# Altium footprint library micro-philips.PCBLIB: 60 footprints (part 1 of 5)
Each footprint in its own frame and in the unit in brackets; x right, y up, seen from the top. Pads: shape width x height; smd on the part's side, far side on the other; paste and mask are expansions set on the pad; w line width, h text height; cw(c..) or ccw(c..) is an arc to the next point about the centre after c.
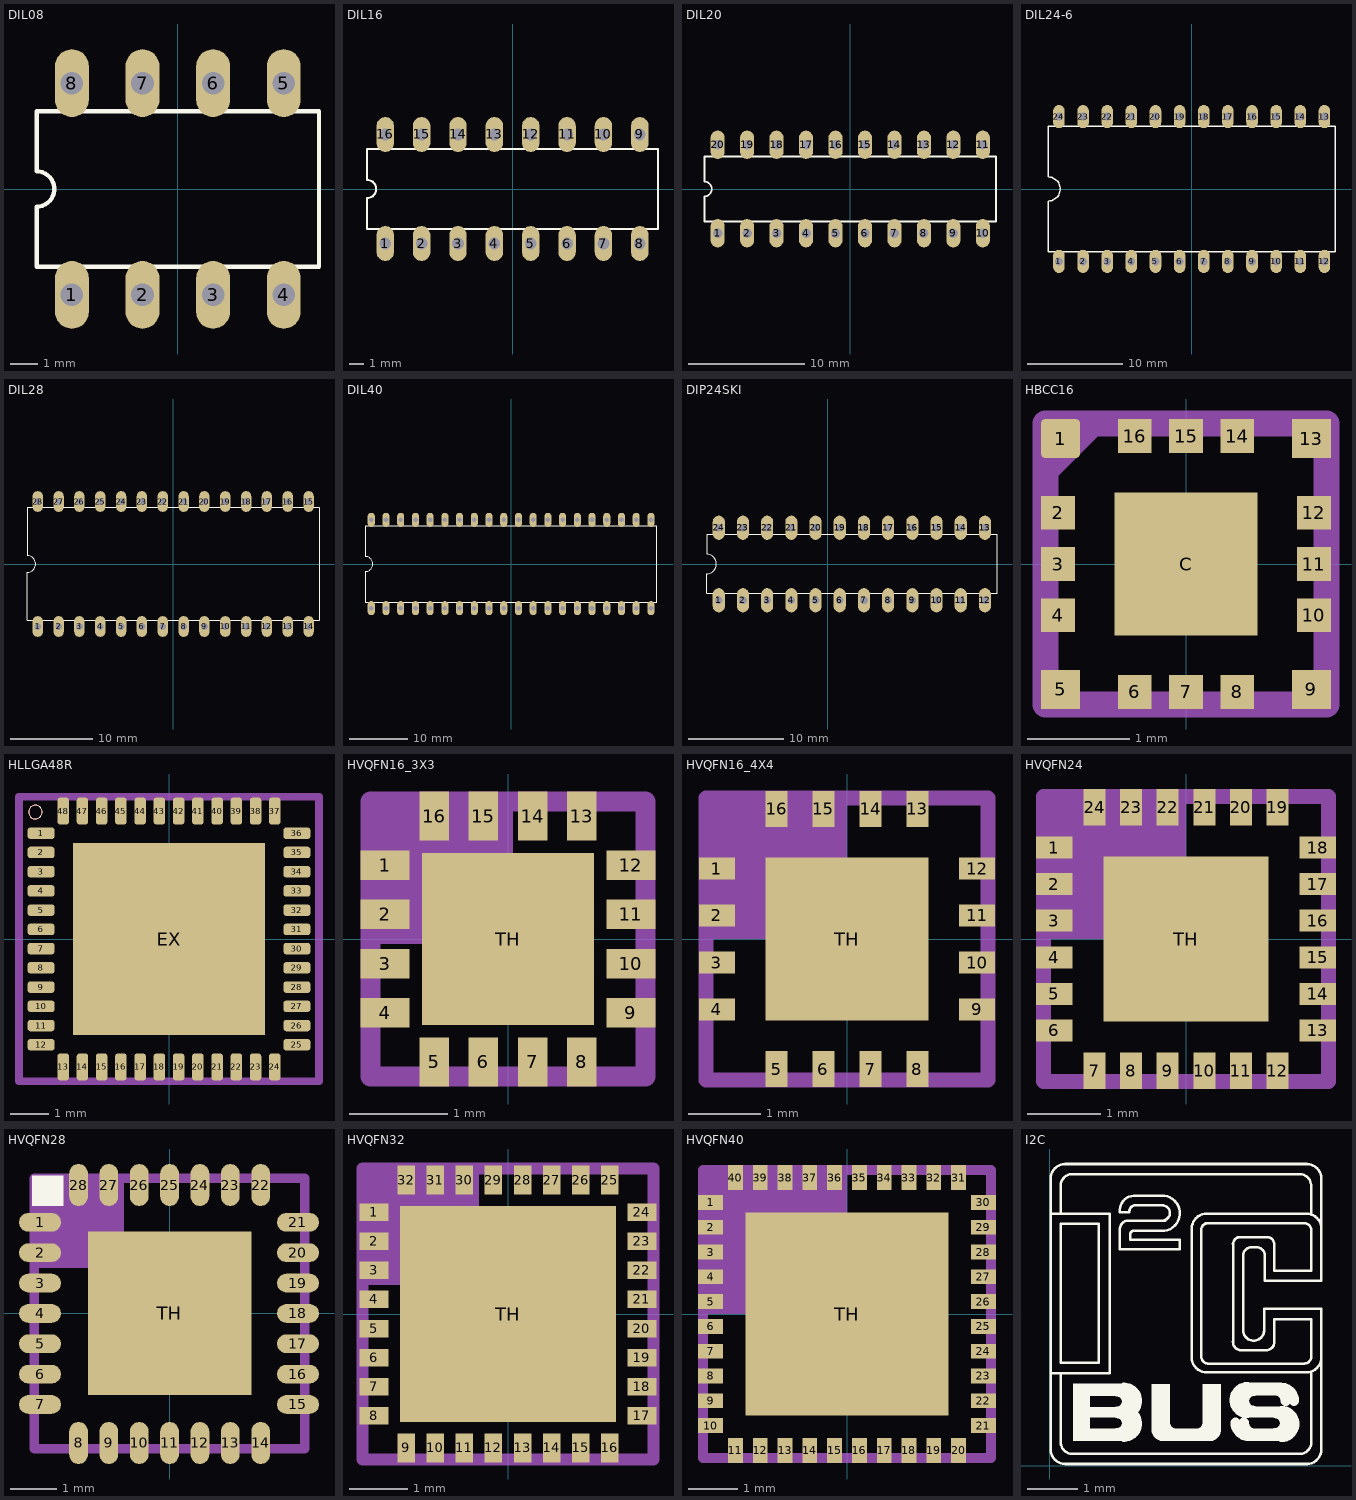
[diagram p0: the footprints below, top view; thin cyan lines are the x and y axes]

## DIL08 [mil]
pads (8):
  oval 48x96 hole 32: 1(-150,-150) 2(-50,-150) 3(50,-150) 4(150,-150) 5(150,150) 6(50,150) 7(-50,150) 8(-150,150)
Top Overlay:
  lines w6: -200,-110 -200,-25 ccw(c-200,0) -200,25 -200,110 200,110 200,-110 -200,-110

## DIL16 [mil]
pads (16):
  oval 48x96 hole 32: 1(-350,-150) 2(-250,-150) 3(-150,-150) 4(-50,-150) 5(50,-150) 6(150,-150) 7(250,-150) 8(350,-150) 9(350,150) 10(250,150) 11(150,150) 12(50,150) 13(-50,150) 14(-150,150) 15(-250,150) 16(-350,150)
Top Overlay:
  lines w6: -400,-110 -400,-25 ccw(c-400,0) -400,25 -400,110 400,110 400,-110 -400,-110

## DIL20 [mil]
pads (20):
  oval 48x96 hole 32: 1(-450,-150) 2(-350,-150) 3(-250,-150) 4(-150,-150) 5(-50,-150) 6(50,-150) 7(150,-150) 8(250,-150) 9(350,-150) 10(450,-150) 11(450,150) 12(350,150) 13(250,150) 14(150,150) 15(50,150) 16(-50,150) 17(-150,150) 18(-250,150) 19(-350,150) 20(-450,150)
Top Overlay:
  lines w6: -495,-110 -495,-25 ccw(c-495,0) -495,25 -495,110 495,110 495,-110 -495,-110

## DIL24-6 [mil]
pads (24):
  oval 48x96 hole 32: 1(-550,-300) 2(-450,-300) 3(-350,-300) 4(-250,-300) 5(-150,-300) 6(-50,-300) 7(50,-300) 8(150,-300) 9(250,-300) 10(350,-300) 11(450,-300) 12(550,-300) 13(550,300) 14(450,300) 15(350,300) 16(250,300) 17(150,300) 18(50,300) 19(-50,300) 20(-150,300) 21(-250,300) 22(-350,300) 23(-450,300) 24(-550,300)
Top Overlay:
  lines w6: -595,-260 -595,-50 ccw(c-595,0) -595,50 -595,260 595,260 595,-260 -595,-260

## DIL28 [mil]
pads (28):
  oval 50x100 hole 32: 1(-650,-300) 2(-550,-300) 3(-450,-300) 4(-350,-300) 5(-250,-300) 6(-150,-300) 7(-50,-300) 8(50,-300) 9(150,-300) 10(250,-300) 11(350,-300) 12(450,-300) 13(550,-300) 14(650,-300) 15(650,300) 16(550,300) 17(450,300) 18(350,300) 19(250,300) 20(150,300) 21(50,300) 22(-50,300) 23(-150,300) 24(-250,300) 25(-350,300) 26(-450,300) 27(-550,300) 28(-650,300)
Top Overlay:
  lines w5: -700,-270 700,-270 700,270 -700,270 -700,40 cw(c-700,0) -700,-40 -700,-270

## DIL40 [mil]
pads (40):
  oval 48x96 hole 32: 1(-950,-300) 2(-850,-300) 3(-750,-300) 4(-650,-300) 5(-550,-300) 6(-450,-300) 7(-350,-300) 8(-250,-300) 9(-150,-300) 10(-50,-300) 11(50,-300) 12(150,-300) 13(250,-300) 14(350,-300) 15(450,-300) 16(550,-300) 17(650,-300) 18(750,-300) 19(850,-300) 20(950,-300) 21(950,300) 22(850,300) 23(750,300) 24(650,300) 25(550,300) 26(450,300) 27(350,300) 28(250,300) 29(150,300) 30(50,300) 31(-50,300) 32(-150,300) 33(-250,300) 34(-350,300) 35(-450,300) 36(-550,300) 37(-650,300) 38(-750,300) 39(-850,300) 40(-950,300)
Top Overlay:
  lines w6: -990,-260 -990,-50 ccw(c-990,0) -990,50 -990,260 990,260 990,-260 -990,-260

## DIP24SKI [mil]
pads (24):
  oval 50x100 hole 32: 1(-450,-150) 2(-350,-150) 3(-250,-150) 4(-150,-150) 5(-50,-150) 6(50,-150) 7(150,-150) 8(250,-150) 9(350,-150) 10(450,-150) 11(550,-150) 12(650,-150) 13(650,150) 14(550,150) 15(450,150) 16(350,150) 17(250,150) 18(150,150) 19(50,150) 20(-50,150) 21(-150,150) 22(-250,150) 23(-350,150) 24(-450,150)
Top Overlay:
  lines w5: -500,-120 700,-120 700,120 -500,120 -500,40 cw(c-500,0) -500,-40 -500,-120

## HBCC16 [mm]
pads (17):
  rrect20% 0.38x0.38 smd: 1(-1.225,1.225)
  rect 0.33x0.33 smd: 2(-1.25,0.5) 3(-1.25,0) 4(-1.25,-0.5) 6(-0.5,-1.25) 7(0,-1.25) 8(0.5,-1.25) 10(1.25,-0.5) 11(1.25,0) 12(1.25,0.5) 14(0.5,1.25) 15(0,1.25) 16(-0.5,1.25)
  rect 0.38x0.38 smd: 5(-1.225,-1.225) 9(1.225,-1.225) 13(1.225,1.225)
  rect 1.4x1.4 smd: C(0,0)
Top Paste:
  rectangle: -1.365,-1.365 -1.085,-1.085
  rectangle: -1.365,0.385 -1.135,0.615
  region: 1.365,-1.365 1.365,-1.085 1.085,-1.085 1.085,-1.365
  region: 1.365,1.365 1.085,1.365 1.085,1.085 1.365,1.085
  region: -1.365,1.365 -1.365,1.085 -1.085,1.085 -1.085,1.365
  rectangle: -1.365,-0.115 -1.135,0.115
  rectangle: -1.365,-0.615 -1.135,-0.385
  region: 0.385,1.365 0.385,1.135 0.615,1.135 0.615,1.365
  region: -0.115,1.365 -0.115,1.135 0.115,1.135 0.115,1.365
  region: -0.615,1.365 -0.615,1.135 -0.385,1.135 -0.385,1.365
  region: 1.365,-0.385 1.135,-0.385 1.135,-0.615 1.365,-0.615
  region: 1.365,0.115 1.135,0.115 1.135,-0.115 1.365,-0.115
  region: 1.365,0.615 1.135,0.615 1.135,0.385 1.365,0.385
  region: -0.385,-1.365 -0.385,-1.135 -0.615,-1.135 -0.615,-1.365
  region: 0.115,-1.365 0.115,-1.135 -0.115,-1.135 -0.115,-1.365
  region: 0.615,-1.365 0.615,-1.135 0.385,-1.135 0.385,-1.365
  region: 0,0 0.254,0 0.254,0.254 0,0.254
  region: 0,0 0.254,0 0.254,0.254 0,0.254
  region: 0,0 0.254,0 0.254,0.254 0,0.254
  region: 0,0 0.254,0 0.254,0.254 0,0.254
  region: 0,0 0.254,0 0.254,0.254 0,0.254
  region: 0,0 0.254,0 0.254,0.254 0,0.254
  region: 0,0 0.254,0 0.254,0.254 0,0.254
  region: 0,0 0.254,0 0.254,0.254 0,0.254
Top Solder:
  rectangle: -0.875,-0.875 0.875,0.875
  rectangle: -1.465,-1.465 -0.985,-0.985
  rectangle: -1.465,0.285 -1.035,0.715
  region: 1.465,-1.465 1.465,-0.985 0.985,-0.985 0.985,-1.465
  region: 1.465,1.465 0.985,1.465 0.985,0.985 1.465,0.985
  region: -1.465,1.465 -1.465,0.985 -0.985,0.985 -0.985,1.465
  rectangle: -1.465,-0.215 -1.035,0.215
  rectangle: -1.465,-0.715 -1.035,-0.285
  region: 0.285,1.465 0.285,1.035 0.715,1.035 0.715,1.465
  region: -0.215,1.465 -0.215,1.035 0.215,1.035 0.215,1.465
  region: -0.715,1.465 -0.715,1.035 -0.285,1.035 -0.285,1.465
  region: 1.465,-0.285 1.035,-0.285 1.035,-0.715 1.465,-0.715
  region: 1.465,0.215 1.035,0.215 1.035,-0.215 1.465,-0.215
  region: 1.465,0.715 1.035,0.715 1.035,0.285 1.465,0.285
  region: -0.285,-1.465 -0.285,-1.035 -0.715,-1.035 -0.715,-1.465
  region: 0.215,-1.465 0.215,-1.035 -0.215,-1.035 -0.215,-1.465
  region: 0.715,-1.465 0.715,-1.035 0.285,-1.035 0.285,-1.465
Mechanical 16:
  lines w0.254: -1.372,0.914 -1.372,-1.372 1.372,-1.372 1.372,1.372 -0.914,1.372 ; -1.372,0.914 -1.372,1.372 -0.914,1.372 ; -1.372,0.914 -0.914,1.372

## HLLGA48R [mm]
pads (49):
  rrect50% 0.7x0.3 smd: 1(-3.325,2.75) 2(-3.325,2.25) 3(-3.325,1.75) 4(-3.325,1.25) 5(-3.325,0.75) 6(-3.325,0.25) 7(-3.325,-0.25) 8(-3.325,-0.75) 9(-3.325,-1.25) 10(-3.325,-1.75) 11(-3.325,-2.25) 12(-3.325,-2.75) 25(3.325,-2.75) 26(3.325,-2.25) 27(3.325,-1.75) 28(3.325,-1.25) 29(3.325,-0.75) 30(3.325,-0.25) 31(3.325,0.25) 32(3.325,0.75) 33(3.325,1.25) 34(3.325,1.75) 35(3.325,2.25) 36(3.325,2.75)
  rrect50% 0.3x0.7 smd: 13(-2.75,-3.325) 14(-2.25,-3.325) 15(-1.75,-3.325) 16(-1.25,-3.325) 17(-0.75,-3.325) 18(-0.25,-3.325) 19(0.25,-3.325) 20(0.75,-3.325) 21(1.25,-3.325) 22(1.75,-3.325) 23(2.25,-3.325) 24(2.75,-3.325) 37(2.75,3.325) 38(2.25,3.325) 39(1.75,3.325) 40(1.25,3.325) 41(0.75,3.325) 42(0.25,3.325) 43(-0.25,3.325) 44(-0.75,3.325) 45(-1.25,3.325) 46(-1.75,3.325) 47(-2.25,3.325) 48(-2.75,3.325)
  rect 5x5 smd: EX(0,0)
Top Layer:
  circle w0: c-3.475,3.3 r0.177
Top Overlay:
  circle w0: c-3.475,3.3 r0.177
Top Paste:
  rectangle: -3.6,2.625 -3.025,2.875
  rectangle: -3.6,2.125 -3.025,2.375
  rectangle: -3.6,1.625 -3.025,1.875
  rectangle: -3.6,1.125 -3.025,1.375
  rectangle: -3.6,0.625 -3.025,0.875
  rectangle: -3.6,0.125 -3.025,0.375
  rectangle: -3.6,-0.375 -3.025,-0.125
  rectangle: -3.6,-0.875 -3.025,-0.625
  rectangle: -3.6,-1.375 -3.025,-1.125
  rectangle: -3.6,-1.875 -3.025,-1.625
  rectangle: -3.6,-2.375 -3.025,-2.125
  rectangle: -3.6,-2.875 -3.025,-2.625
  region: -2.625,-3.6 -2.625,-3.025 -2.875,-3.025 -2.875,-3.6
  region: -2.125,-3.6 -2.125,-3.025 -2.375,-3.025 -2.375,-3.6
  region: -1.625,-3.6 -1.625,-3.025 -1.875,-3.025 -1.875,-3.6
  region: -1.125,-3.6 -1.125,-3.025 -1.375,-3.025 -1.375,-3.6
  region: -0.625,-3.6 -0.625,-3.025 -0.875,-3.025 -0.875,-3.6
  region: -0.125,-3.6 -0.125,-3.025 -0.375,-3.025 -0.375,-3.6
  region: 0.375,-3.6 0.375,-3.025 0.125,-3.025 0.125,-3.6
  region: 0.875,-3.6 0.875,-3.025 0.625,-3.025 0.625,-3.6
  region: 1.375,-3.6 1.375,-3.025 1.125,-3.025 1.125,-3.6
  region: 1.875,-3.6 1.875,-3.025 1.625,-3.025 1.625,-3.6
  region: 2.375,-3.6 2.375,-3.025 2.125,-3.025 2.125,-3.6
  region: 2.875,-3.6 2.875,-3.025 2.625,-3.025 2.625,-3.6
  region: 3.6,-2.625 3.025,-2.625 3.025,-2.875 3.6,-2.875
  region: 3.6,-2.125 3.025,-2.125 3.025,-2.375 3.6,-2.375
  region: 3.6,-1.625 3.025,-1.625 3.025,-1.875 3.6,-1.875
  region: 3.6,-1.125 3.025,-1.125 3.025,-1.375 3.6,-1.375
  region: 3.6,-0.625 3.025,-0.625 3.025,-0.875 3.6,-0.875
  region: 3.6,-0.125 3.025,-0.125 3.025,-0.375 3.6,-0.375
  region: 3.6,0.375 3.025,0.375 3.025,0.125 3.6,0.125
  region: 3.6,0.875 3.025,0.875 3.025,0.625 3.6,0.625
  region: 3.6,1.375 3.025,1.375 3.025,1.125 3.6,1.125
  region: 3.6,1.875 3.025,1.875 3.025,1.625 3.6,1.625
  region: 3.6,2.375 3.025,2.375 3.025,2.125 3.6,2.125
  region: 3.6,2.875 3.025,2.875 3.025,2.625 3.6,2.625
  region: 2.625,3.6 2.625,3.025 2.875,3.025 2.875,3.6
  region: 2.125,3.6 2.125,3.025 2.375,3.025 2.375,3.6
  region: 1.625,3.6 1.625,3.025 1.875,3.025 1.875,3.6
  region: 1.125,3.6 1.125,3.025 1.375,3.025 1.375,3.6
  region: 0.625,3.6 0.625,3.025 0.875,3.025 0.875,3.6
  region: 0.125,3.6 0.125,3.025 0.375,3.025 0.375,3.6
  region: -0.375,3.6 -0.375,3.025 -0.125,3.025 -0.125,3.6
  region: -0.875,3.6 -0.875,3.025 -0.625,3.025 -0.625,3.6
  region: -1.375,3.6 -1.375,3.025 -1.125,3.025 -1.125,3.6
  region: -1.875,3.6 -1.875,3.025 -1.625,3.025 -1.625,3.6
  region: -2.375,3.6 -2.375,3.025 -2.125,3.025 -2.125,3.6
  region: -2.875,3.6 -2.875,3.025 -2.625,3.025 -2.625,3.6
Top Solder:
  rectangle: -3.7,2.575 -2.95,2.925
  rectangle: -3.7,2.075 -2.95,2.425
  rectangle: -3.7,1.575 -2.95,1.925
  rectangle: -3.7,1.075 -2.95,1.425
  rectangle: -3.7,0.575 -2.95,0.925
  rectangle: -3.7,0.075 -2.95,0.425
  rectangle: -3.7,-0.425 -2.95,-0.075
  rectangle: -3.7,-0.925 -2.95,-0.575
  rectangle: -3.7,-1.425 -2.95,-1.075
  rectangle: -3.7,-1.925 -2.95,-1.575
  rectangle: -3.7,-2.425 -2.95,-2.075
  rectangle: -3.7,-2.925 -2.95,-2.575
  region: -2.575,-3.7 -2.575,-2.95 -2.925,-2.95 -2.925,-3.7
  region: -2.075,-3.7 -2.075,-2.95 -2.425,-2.95 -2.425,-3.7
  region: -1.575,-3.7 -1.575,-2.95 -1.925,-2.95 -1.925,-3.7
  region: -1.075,-3.7 -1.075,-2.95 -1.425,-2.95 -1.425,-3.7
  region: -0.575,-3.7 -0.575,-2.95 -0.925,-2.95 -0.925,-3.7
  region: -0.075,-3.7 -0.075,-2.95 -0.425,-2.95 -0.425,-3.7
  region: 0.425,-3.7 0.425,-2.95 0.075,-2.95 0.075,-3.7
  region: 0.925,-3.7 0.925,-2.95 0.575,-2.95 0.575,-3.7
  region: 1.425,-3.7 1.425,-2.95 1.075,-2.95 1.075,-3.7
  region: 1.925,-3.7 1.925,-2.95 1.575,-2.95 1.575,-3.7
  region: 2.425,-3.7 2.425,-2.95 2.075,-2.95 2.075,-3.7
  region: 2.925,-3.7 2.925,-2.95 2.575,-2.95 2.575,-3.7
  region: 3.7,-2.575 2.95,-2.575 2.95,-2.925 3.7,-2.925
  region: 3.7,-2.075 2.95,-2.075 2.95,-2.425 3.7,-2.425
  region: 3.7,-1.575 2.95,-1.575 2.95,-1.925 3.7,-1.925
  region: 3.7,-1.075 2.95,-1.075 2.95,-1.425 3.7,-1.425
  region: 3.7,-0.575 2.95,-0.575 2.95,-0.925 3.7,-0.925
  region: 3.7,-0.075 2.95,-0.075 2.95,-0.425 3.7,-0.425
  region: 3.7,0.425 2.95,0.425 2.95,0.075 3.7,0.075
  region: 3.7,0.925 2.95,0.925 2.95,0.575 3.7,0.575
  region: 3.7,1.425 2.95,1.425 2.95,1.075 3.7,1.075
  region: 3.7,1.925 2.95,1.925 2.95,1.575 3.7,1.575
  region: 3.7,2.425 2.95,2.425 2.95,2.075 3.7,2.075
  region: 3.7,2.925 2.95,2.925 2.95,2.575 3.7,2.575
  region: 2.575,3.7 2.575,2.95 2.925,2.95 2.925,3.7
  region: 2.075,3.7 2.075,2.95 2.425,2.95 2.425,3.7
  region: 1.575,3.7 1.575,2.95 1.925,2.95 1.925,3.7
  region: 1.075,3.7 1.075,2.95 1.425,2.95 1.425,3.7
  region: 0.575,3.7 0.575,2.95 0.925,2.95 0.925,3.7
  region: 0.075,3.7 0.075,2.95 0.425,2.95 0.425,3.7
  region: -0.425,3.7 -0.425,2.95 -0.075,2.95 -0.075,3.7
  region: -0.925,3.7 -0.925,2.95 -0.575,2.95 -0.575,3.7
  region: -1.425,3.7 -1.425,2.95 -1.075,2.95 -1.075,3.7
  region: -1.925,3.7 -1.925,2.95 -1.575,2.95 -1.575,3.7
  region: -2.425,3.7 -2.425,2.95 -2.075,2.95 -2.075,3.7
  region: -2.925,3.7 -2.925,2.95 -2.575,2.95 -2.575,3.7
Mechanical 16:
  lines w0.203: -3.9,-3.7 3.9,-3.7 3.9,3.7 -3.9,3.7 -3.9,-3.7

## HVQFN16_3X3 [mm]
pads (17):
  rect 0.5x0.3 smd: 1(-1.25,0.75) 2(-1.25,0.25) 3(-1.25,-0.25) 4(-1.25,-0.75) 9(1.25,-0.75) 10(1.25,-0.25) 11(1.25,0.25) 12(1.25,0.75)
  rect 0.3x0.5 smd: 5(-0.75,-1.25) 6(-0.25,-1.25) 7(0.25,-1.25) 8(0.75,-1.25) 13(0.75,1.25) 14(0.25,1.25) 15(-0.25,1.25) 16(-0.75,1.25)
  rect 1.75x1.75 smd: TH(0,0)
Top Paste:
  circle w0: c-1.15,0.75 r0.125
  circle w0: c-1.15,0.25 r0.125
  circle w0: c-1.15,-0.25 r0.125
  circle w0: c-1.15,-0.75 r0.125
  circle w0: c-0.75,-1.15 r0.125
  circle w0: c-0.25,-1.15 r0.125
  circle w0: c0.25,-1.15 r0.125
  circle w0: c0.75,-1.15 r0.125
  circle w0: c1.15,-0.75 r0.125
  circle w0: c1.15,-0.25 r0.125
  circle w0: c1.15,0.25 r0.125
  circle w0: c1.15,0.75 r0.125
  circle w0: c0.75,1.15 r0.125
  circle w0: c0.25,1.15 r0.125
  circle w0: c-0.25,1.15 r0.125
  circle w0: c-0.75,1.15 r0.125
  rectangle: -1.475,0.625 -1.15,0.875
  rectangle: -1.475,0.125 -1.15,0.375
  rectangle: -1.475,-0.375 -1.15,-0.125
  rectangle: -1.475,-0.875 -1.15,-0.625
  region: -0.625,-1.475 -0.625,-1.15 -0.875,-1.15 -0.875,-1.475
  region: -0.125,-1.475 -0.125,-1.15 -0.375,-1.15 -0.375,-1.475
  region: 0.375,-1.475 0.375,-1.15 0.125,-1.15 0.125,-1.475
  region: 0.875,-1.475 0.875,-1.15 0.625,-1.15 0.625,-1.475
  region: 1.475,-0.625 1.15,-0.625 1.15,-0.875 1.475,-0.875
  region: 1.475,-0.125 1.15,-0.125 1.15,-0.375 1.475,-0.375
  region: 1.475,0.375 1.15,0.375 1.15,0.125 1.475,0.125
  region: 1.475,0.875 1.15,0.875 1.15,0.625 1.475,0.625
  region: 0.625,1.475 0.625,1.15 0.875,1.15 0.875,1.475
  region: 0.125,1.475 0.125,1.15 0.375,1.15 0.375,1.475
  region: -0.375,1.475 -0.375,1.15 -0.125,1.15 -0.125,1.475
  region: -0.875,1.475 -0.875,1.15 -0.625,1.15 -0.625,1.475
  rectangle: -0.825,-0.825 0.825,0.825
Top Solder:
  circle w0: c-1.15,0.75 r0.175
  circle w0: c-1.15,0.25 r0.175
  circle w0: c-1.15,-0.25 r0.175
  circle w0: c-1.15,-0.75 r0.175
  circle w0: c-0.75,-1.15 r0.175
  circle w0: c-0.25,-1.15 r0.175
  circle w0: c0.25,-1.15 r0.175
  circle w0: c0.75,-1.15 r0.175
  circle w0: c1.15,-0.75 r0.175
  circle w0: c1.15,-0.25 r0.175
  circle w0: c1.15,0.25 r0.175
  circle w0: c1.15,0.75 r0.175
  circle w0: c0.75,1.15 r0.175
  circle w0: c0.25,1.15 r0.175
  circle w0: c-0.25,1.15 r0.175
  circle w0: c-0.75,1.15 r0.175
  rectangle: -1.525,0.575 -1.15,0.925
  rectangle: -1.525,0.075 -1.15,0.425
  rectangle: -1.525,-0.425 -1.15,-0.075
  rectangle: -1.525,-0.925 -1.15,-0.575
  region: -0.575,-1.525 -0.575,-1.15 -0.925,-1.15 -0.925,-1.525
  region: -0.075,-1.525 -0.075,-1.15 -0.425,-1.15 -0.425,-1.525
  region: 0.425,-1.525 0.425,-1.15 0.075,-1.15 0.075,-1.525
  region: 0.925,-1.525 0.925,-1.15 0.575,-1.15 0.575,-1.525
  region: 1.525,-0.575 1.15,-0.575 1.15,-0.925 1.525,-0.925
  region: 1.525,-0.075 1.15,-0.075 1.15,-0.425 1.525,-0.425
  region: 1.525,0.425 1.15,0.425 1.15,0.075 1.525,0.075
  region: 1.525,0.925 1.15,0.925 1.15,0.575 1.525,0.575
  region: 0.575,1.525 0.575,1.15 0.925,1.15 0.925,1.525
  region: 0.075,1.525 0.075,1.15 0.425,1.15 0.425,1.525
  region: -0.425,1.525 -0.425,1.15 -0.075,1.15 -0.075,1.525
  region: -0.925,1.525 -0.925,1.15 -0.575,1.15 -0.575,1.525
  rectangle: -0.9,-0.9 0.9,0.9
Mechanical 16:
  rectangle: -1.35,-0.05 0.05,1.35
  rectangle: -1.5,0.625 -1.15,0.875
  rectangle: -1.5,0.125 -1.15,0.375
  rectangle: -1.5,-0.375 -1.15,-0.125
  rectangle: -1.5,-0.875 -1.15,-0.625
  region: -0.625,-1.5 -0.625,-1.15 -0.875,-1.15 -0.875,-1.5
  region: -0.125,-1.5 -0.125,-1.15 -0.375,-1.15 -0.375,-1.5
  region: 0.375,-1.5 0.375,-1.15 0.125,-1.15 0.125,-1.5
  region: 0.875,-1.5 0.875,-1.15 0.625,-1.15 0.625,-1.5
  region: 1.5,-0.625 1.15,-0.625 1.15,-0.875 1.5,-0.875
  region: 1.5,-0.125 1.15,-0.125 1.15,-0.375 1.5,-0.375
  region: 1.5,0.375 1.15,0.375 1.15,0.125 1.5,0.125
  region: 1.5,0.875 1.15,0.875 1.15,0.625 1.5,0.625
  region: 0.625,1.5 0.625,1.15 0.875,1.15 0.875,1.5
  region: 0.125,1.5 0.125,1.15 0.375,1.15 0.375,1.5
  region: -0.375,1.5 -0.375,1.15 -0.125,1.15 -0.125,1.5
  region: -0.875,1.5 -0.875,1.15 -0.625,1.15 -0.625,1.5
  rectangle: -1.5,0.125 -1.15,0.375
  rectangle: -1.5,-0.375 -1.15,-0.125
  rectangle: -1.5,-0.875 -1.15,-0.625
  region: -0.625,-1.5 -0.625,-1.15 -0.875,-1.15 -0.875,-1.5
  region: -0.125,-1.5 -0.125,-1.15 -0.375,-1.15 -0.375,-1.5
  region: 0.375,-1.5 0.375,-1.15 0.125,-1.15 0.125,-1.5
  region: 0.875,-1.5 0.875,-1.15 0.625,-1.15 0.625,-1.5
  region: 1.5,-0.625 1.15,-0.625 1.15,-0.875 1.5,-0.875
  region: 1.5,-0.125 1.15,-0.125 1.15,-0.375 1.5,-0.375
  region: 1.5,0.375 1.15,0.375 1.15,0.125 1.5,0.125
  region: 1.5,0.875 1.15,0.875 1.15,0.625 1.5,0.625
  region: 0.625,1.5 0.625,1.15 0.875,1.15 0.875,1.5
  region: 0.125,1.5 0.125,1.15 0.375,1.15 0.375,1.5
  region: -0.375,1.5 -0.375,1.15 -0.125,1.15 -0.125,1.5
  region: -0.875,1.5 -0.875,1.15 -0.625,1.15 -0.625,1.5
  lines w0.15: -1.15,0.7 ccw(c-1.15,0.75) -1.15,0.8 ; -1.15,-0.8 ccw(c-1.15,-0.75) -1.15,-0.7 cw(c-1.15,-0.75) -1.15,-0.8 ; -1.15,-0.3 ccw(c-1.15,-0.25) -1.15,-0.2 cw(c-1.15,-0.25) -1.15,-0.3 ; -1.15,0.2 ccw(c-1.15,0.25) -1.15,0.3 cw(c-1.15,0.25) -1.15,0.2 ; -0.8,-1.15 cw(c-0.75,-1.15) -0.7,-1.15 ccw(c-0.75,-1.15) -0.8,-1.15 ; -0.8,1.15 ccw(c-0.75,1.15) -0.7,1.15 cw(c-0.75,1.15) -0.8,1.15 ; -0.3,-1.15 cw(c-0.25,-1.15) -0.2,-1.15 ccw(c-0.25,-1.15) -0.3,-1.15 ; -0.3,1.15 ccw(c-0.25,1.15) -0.2,1.15 cw(c-0.25,1.15) -0.3,1.15 ; 0.2,-1.15 cw(c0.25,-1.15) 0.3,-1.15 ccw(c0.25,-1.15) 0.2,-1.15 ; 0.2,1.15 ccw(c0.25,1.15) 0.3,1.15 cw(c0.25,1.15) 0.2,1.15 ; 0.7,-1.15 cw(c0.75,-1.15) 0.8,-1.15 ccw(c0.75,-1.15) 0.7,-1.15 ; 0.7,1.15 ccw(c0.75,1.15) 0.8,1.15 cw(c0.75,1.15) 0.7,1.15 ; 1.15,-0.8 cw(c1.15,-0.75) 1.15,-0.7 ccw(c1.15,-0.75) 1.15,-0.8 ; 1.15,-0.3 cw(c1.15,-0.25) 1.15,-0.2 ccw(c1.15,-0.25) 1.15,-0.3 ; 1.15,0.2 cw(c1.15,0.25) 1.15,0.3 ccw(c1.15,0.25) 1.15,0.2 ; 1.15,0.7 cw(c1.15,0.75) 1.15,0.8 ccw(c1.15,0.75) 1.15,0.7
  lines w0.203: -1.4,-1.4 1.4,-1.4 1.4,1.4 -1.4,1.4 -1.4,-1.4

## HVQFN16_4X4 [mm]
pads (17):
  rect 0.5x0.3 smd: 1(-1.8,0.975) 2(-1.8,0.325) 3(-1.8,-0.325) 4(-1.8,-0.975) 9(1.8,-0.975) 10(1.8,-0.325) 11(1.8,0.325) 12(1.8,0.975)
  rect 0.3x0.5 smd: 5(-0.975,-1.8) 6(-0.325,-1.8) 7(0.325,-1.8) 8(0.975,-1.8) 13(0.975,1.8) 14(0.325,1.8) 15(-0.325,1.8) 16(-0.975,1.8)
  rect 2.25x2.25 smd: TH(0,0)
Top Paste:
  circle w0: c-1.7,0.975 r0.125
  circle w0: c-1.7,0.325 r0.125
  circle w0: c-1.7,-0.325 r0.125
  circle w0: c-1.7,-0.975 r0.125
  circle w0: c-0.975,-1.7 r0.125
  circle w0: c-0.325,-1.7 r0.125
  circle w0: c0.325,-1.7 r0.125
  circle w0: c0.975,-1.7 r0.125
  circle w0: c1.7,-0.975 r0.125
  circle w0: c1.7,-0.325 r0.125
  circle w0: c1.7,0.325 r0.125
  circle w0: c1.7,0.975 r0.125
  circle w0: c0.975,1.7 r0.125
  circle w0: c0.325,1.7 r0.125
  circle w0: c-0.325,1.7 r0.125
  circle w0: c-0.975,1.7 r0.125
  rectangle: -2.025,0.85 -1.7,1.1
  rectangle: -2.025,0.2 -1.7,0.45
  rectangle: -2.025,-0.45 -1.7,-0.2
  rectangle: -2.025,-1.1 -1.7,-0.85
  region: -0.85,-2.025 -0.85,-1.7 -1.1,-1.7 -1.1,-2.025
  region: -0.2,-2.025 -0.2,-1.7 -0.45,-1.7 -0.45,-2.025
  region: 0.45,-2.025 0.45,-1.7 0.2,-1.7 0.2,-2.025
  region: 1.1,-2.025 1.1,-1.7 0.85,-1.7 0.85,-2.025
  region: 2.025,-0.85 1.7,-0.85 1.7,-1.1 2.025,-1.1
  region: 2.025,-0.2 1.7,-0.2 1.7,-0.45 2.025,-0.45
  region: 2.025,0.45 1.7,0.45 1.7,0.2 2.025,0.2
  region: 2.025,1.1 1.7,1.1 1.7,0.85 2.025,0.85
  region: 0.85,2.025 0.85,1.7 1.1,1.7 1.1,2.025
  region: 0.2,2.025 0.2,1.7 0.45,1.7 0.45,2.025
  region: -0.45,2.025 -0.45,1.7 -0.2,1.7 -0.2,2.025
  region: -1.1,2.025 -1.1,1.7 -0.85,1.7 -0.85,2.025
  rectangle: -1.05,-1.05 1.05,1.05
Top Solder:
  circle w0: c-1.7,0.975 r0.175
  circle w0: c-1.7,0.325 r0.175
  circle w0: c-1.7,-0.325 r0.175
  circle w0: c-1.7,-0.975 r0.175
  circle w0: c-0.975,-1.7 r0.175
  circle w0: c-0.325,-1.7 r0.175
  circle w0: c0.325,-1.7 r0.175
  circle w0: c0.975,-1.7 r0.175
  circle w0: c1.7,-0.975 r0.175
  circle w0: c1.7,-0.325 r0.175
  circle w0: c1.7,0.325 r0.175
  circle w0: c1.7,0.975 r0.175
  circle w0: c0.975,1.7 r0.175
  circle w0: c0.325,1.7 r0.175
  circle w0: c-0.325,1.7 r0.175
  circle w0: c-0.975,1.7 r0.175
  rectangle: -2.075,0.8 -1.7,1.15
  rectangle: -2.075,0.15 -1.7,0.5
  rectangle: -2.075,-0.5 -1.7,-0.15
  rectangle: -2.075,-1.15 -1.7,-0.8
  region: -0.8,-2.075 -0.8,-1.7 -1.15,-1.7 -1.15,-2.075
  region: -0.15,-2.075 -0.15,-1.7 -0.5,-1.7 -0.5,-2.075
  region: 0.5,-2.075 0.5,-1.7 0.15,-1.7 0.15,-2.075
  region: 1.15,-2.075 1.15,-1.7 0.8,-1.7 0.8,-2.075
  region: 2.075,-0.8 1.7,-0.8 1.7,-1.15 2.075,-1.15
  region: 2.075,-0.15 1.7,-0.15 1.7,-0.5 2.075,-0.5
  region: 2.075,0.5 1.7,0.5 1.7,0.15 2.075,0.15
  region: 2.075,1.15 1.7,1.15 1.7,0.8 2.075,0.8
  region: 0.8,2.075 0.8,1.7 1.15,1.7 1.15,2.075
  region: 0.15,2.075 0.15,1.7 0.5,1.7 0.5,2.075
  region: -0.5,2.075 -0.5,1.7 -0.15,1.7 -0.15,2.075
  region: -1.15,2.075 -1.15,1.7 -0.8,1.7 -0.8,2.075
  rectangle: -1.2,-1.2 1.2,1.2
Mechanical 16:
  rectangle: -1.9,0 0,1.9
  rectangle: -2.05,0.85 -1.7,1.1
  rectangle: -2.05,0.2 -1.7,0.45
  rectangle: -2.05,-0.45 -1.7,-0.2
  rectangle: -2.05,-1.1 -1.7,-0.85
  region: -0.85,-2.05 -0.85,-1.7 -1.1,-1.7 -1.1,-2.05
  region: -0.2,-2.05 -0.2,-1.7 -0.45,-1.7 -0.45,-2.05
  region: 0.45,-2.05 0.45,-1.7 0.2,-1.7 0.2,-2.05
  region: 1.1,-2.05 1.1,-1.7 0.85,-1.7 0.85,-2.05
  region: 2.05,-0.85 1.7,-0.85 1.7,-1.1 2.05,-1.1
  region: 2.05,-0.2 1.7,-0.2 1.7,-0.45 2.05,-0.45
  region: 2.05,0.45 1.7,0.45 1.7,0.2 2.05,0.2
  region: 2.05,1.1 1.7,1.1 1.7,0.85 2.05,0.85
  region: 0.85,2.05 0.85,1.7 1.1,1.7 1.1,2.05
  region: 0.2,2.05 0.2,1.7 0.45,1.7 0.45,2.05
  region: -0.45,2.05 -0.45,1.7 -0.2,1.7 -0.2,2.05
  region: -1.1,2.05 -1.1,1.7 -0.85,1.7 -0.85,2.05
  rectangle: -2.05,0.2 -1.7,0.45
  rectangle: -2.05,-0.45 -1.7,-0.2
  rectangle: -2.05,-1.1 -1.7,-0.85
  region: -0.85,-2.05 -0.85,-1.7 -1.1,-1.7 -1.1,-2.05
  region: -0.2,-2.05 -0.2,-1.7 -0.45,-1.7 -0.45,-2.05
  region: 0.45,-2.05 0.45,-1.7 0.2,-1.7 0.2,-2.05
  region: 1.1,-2.05 1.1,-1.7 0.85,-1.7 0.85,-2.05
  region: 2.05,-0.85 1.7,-0.85 1.7,-1.1 2.05,-1.1
  region: 2.05,-0.2 1.7,-0.2 1.7,-0.45 2.05,-0.45
  region: 2.05,0.45 1.7,0.45 1.7,0.2 2.05,0.2
  region: 2.05,1.1 1.7,1.1 1.7,0.85 2.05,0.85
  region: 0.85,2.05 0.85,1.7 1.1,1.7 1.1,2.05
  region: 0.2,2.05 0.2,1.7 0.45,1.7 0.45,2.05
  region: -0.45,2.05 -0.45,1.7 -0.2,1.7 -0.2,2.05
  region: -1.1,2.05 -1.1,1.7 -0.85,1.7 -0.85,2.05
  lines w0.15: -1.7,0.925 ccw(c-1.7,0.975) -1.7,1.025 ; -1.7,-1.025 ccw(c-1.7,-0.975) -1.7,-0.925 cw(c-1.7,-0.975) -1.7,-1.025 ; -1.7,-0.375 ccw(c-1.7,-0.325) -1.7,-0.275 cw(c-1.7,-0.325) -1.7,-0.375 ; -1.7,0.275 ccw(c-1.7,0.325) -1.7,0.375 cw(c-1.7,0.325) -1.7,0.275 ; -1.025,-1.7 cw(c-0.975,-1.7) -0.925,-1.7 ccw(c-0.975,-1.7) -1.025,-1.7 ; -1.025,1.7 ccw(c-0.975,1.7) -0.925,1.7 cw(c-0.975,1.7) -1.025,1.7 ; -0.375,-1.7 cw(c-0.325,-1.7) -0.275,-1.7 ccw(c-0.325,-1.7) -0.375,-1.7 ; -0.375,1.7 ccw(c-0.325,1.7) -0.275,1.7 cw(c-0.325,1.7) -0.375,1.7 ; 0.275,-1.7 cw(c0.325,-1.7) 0.375,-1.7 ccw(c0.325,-1.7) 0.275,-1.7 ; 0.275,1.7 ccw(c0.325,1.7) 0.375,1.7 cw(c0.325,1.7) 0.275,1.7 ; 0.925,-1.7 cw(c0.975,-1.7) 1.025,-1.7 ccw(c0.975,-1.7) 0.925,-1.7 ; 0.925,1.7 ccw(c0.975,1.7) 1.025,1.7 cw(c0.975,1.7) 0.925,1.7 ; 1.7,-1.025 cw(c1.7,-0.975) 1.7,-0.925 ccw(c1.7,-0.975) 1.7,-1.025 ; 1.7,-0.375 cw(c1.7,-0.325) 1.7,-0.275 ccw(c1.7,-0.325) 1.7,-0.375 ; 1.7,0.275 cw(c1.7,0.325) 1.7,0.375 ccw(c1.7,0.325) 1.7,0.275 ; 1.7,0.925 cw(c1.7,0.975) 1.7,1.025 ccw(c1.7,0.975) 1.7,0.925
  lines w0.203: -1.95,-1.95 1.95,-1.95 1.95,1.95 -1.95,1.95 -1.95,-1.95

## HVQFN24 [mm]
pads (25):
  rect 0.5x0.3 smd: 1(-1.8,1.25) 2(-1.8,0.75) 3(-1.8,0.25) 4(-1.8,-0.25) 5(-1.8,-0.75) 6(-1.8,-1.25) 13(1.8,-1.25) 14(1.8,-0.75) 15(1.8,-0.25) 16(1.8,0.25) 17(1.8,0.75) 18(1.8,1.25)
  rect 0.3x0.5 smd: 7(-1.25,-1.8) 8(-0.75,-1.8) 9(-0.25,-1.8) 10(0.25,-1.8) 11(0.75,-1.8) 12(1.25,-1.8) 19(1.25,1.8) 20(0.75,1.8) 21(0.25,1.8) 22(-0.25,1.8) 23(-0.75,1.8) 24(-1.25,1.8)
  rect 2.25x2.25 smd: TH(0,0)
Mechanical 16:
  region: -1.7,1.125 -1.7,1.375 -2.05,1.375 -2.05,1.125
  region: -1.7,0.625 -1.7,0.875 -2.05,0.875 -2.05,0.625
  region: -1.7,0.125 -1.7,0.375 -2.05,0.375 -2.05,0.125
  region: -1.7,-0.375 -1.7,-0.125 -2.05,-0.125 -2.05,-0.375
  region: -1.7,-0.875 -1.7,-0.625 -2.05,-0.625 -2.05,-0.875
  region: -1.7,-1.375 -1.7,-1.125 -2.05,-1.125 -2.05,-1.375
  rectangle: -1.9,0 0,1.9
  region: -1.125,-1.7 -1.375,-1.7 -1.375,-2.05 -1.125,-2.05
  region: -0.625,-1.7 -0.875,-1.7 -0.875,-2.05 -0.625,-2.05
  region: -0.125,-1.7 -0.375,-1.7 -0.375,-2.05 -0.125,-2.05
  region: 0.375,-1.7 0.125,-1.7 0.125,-2.05 0.375,-2.05
  region: 0.875,-1.7 0.625,-1.7 0.625,-2.05 0.875,-2.05
  region: 1.375,-1.7 1.125,-1.7 1.125,-2.05 1.375,-2.05
  region: 1.7,-1.125 1.7,-1.375 2.05,-1.375 2.05,-1.125
  region: 1.7,-0.625 1.7,-0.875 2.05,-0.875 2.05,-0.625
  region: 1.7,-0.125 1.7,-0.375 2.05,-0.375 2.05,-0.125
  region: 1.7,0.375 1.7,0.125 2.05,0.125 2.05,0.375
  region: 1.7,0.875 1.7,0.625 2.05,0.625 2.05,0.875
  region: 1.7,1.375 1.7,1.125 2.05,1.125 2.05,1.375
  rectangle: 1.125,1.7 1.375,2.05
  rectangle: 0.625,1.7 0.875,2.05
  rectangle: 0.125,1.7 0.375,2.05
  rectangle: -0.375,1.7 -0.125,2.05
  rectangle: -0.875,1.7 -0.625,2.05
  rectangle: -1.375,1.7 -1.125,2.05
  lines w0.15: -1.7,-1.3 ccw(c-1.7,-1.25) -1.7,-1.2 ; -1.7,-0.8 ccw(c-1.7,-0.75) -1.7,-0.7 ; -1.7,-0.3 ccw(c-1.7,-0.25) -1.7,-0.2 ; -1.7,0.2 ccw(c-1.7,0.25) -1.7,0.3 ; -1.7,0.7 ccw(c-1.7,0.75) -1.7,0.8 ; -1.7,1.2 ccw(c-1.7,1.25) -1.7,1.3 ; -1.3,-1.7 cw(c-1.25,-1.7) -1.2,-1.7 ; -1.3,1.7 ccw(c-1.25,1.7) -1.2,1.7 ; -0.8,-1.7 cw(c-0.75,-1.7) -0.7,-1.7 ; -0.8,1.7 ccw(c-0.75,1.7) -0.7,1.7 ; -0.3,-1.7 cw(c-0.25,-1.7) -0.2,-1.7 ; -0.3,1.7 ccw(c-0.25,1.7) -0.2,1.7 ; 0.2,-1.7 cw(c0.25,-1.7) 0.3,-1.7 ; 0.2,1.7 ccw(c0.25,1.7) 0.3,1.7 ; 0.7,-1.7 cw(c0.75,-1.7) 0.8,-1.7 ; 0.7,1.7 ccw(c0.75,1.7) 0.8,1.7 ; 1.2,-1.7 cw(c1.25,-1.7) 1.3,-1.7 ; 1.2,1.7 ccw(c1.25,1.7) 1.3,1.7 ; 1.7,-1.3 cw(c1.7,-1.25) 1.7,-1.2 ; 1.7,-0.8 cw(c1.7,-0.75) 1.7,-0.7 ; 1.7,-0.3 cw(c1.7,-0.25) 1.7,-0.2 ; 1.7,0.2 cw(c1.7,0.25) 1.7,0.3 ; 1.7,0.7 cw(c1.7,0.75) 1.7,0.8 ; 1.7,1.2 cw(c1.7,1.25) 1.7,1.3
  lines w0.203: -1.95,-1.95 1.95,-1.95 1.95,1.95 -1.95,1.95 -1.95,-1.95

## HVQFN28 [mm]
pads (29):
  rrect100% 0.9x0.4 smd: 1(-2.775,1.95) 2(-2.775,1.3) 3(-2.775,0.65) 4(-2.775,0) 5(-2.775,-0.65) 6(-2.775,-1.3) 7(-2.775,-1.95) 15(2.75,-1.95) 16(2.75,-1.3) 17(2.75,-0.65) 18(2.75,0) 19(2.75,0.65) 20(2.75,1.3) 21(2.75,1.95)
  rrect100% 0.4x0.9 smd: 8(-1.95,-2.775) 9(-1.3,-2.775) 10(-0.65,-2.775) 11(0,-2.775) 12(0.65,-2.775) 13(1.3,-2.775) 14(1.95,-2.775) 22(1.95,2.75) 23(1.3,2.75) 24(0.65,2.75) 25(0,2.75) 26(-0.65,2.75) 27(-1.3,2.75) 28(-1.95,2.75)
  rect 3.5x3.5 smd: TH(0,0)
Top Overlay:
  rectangle: -2.95,2.3 -2.275,2.95
Top Paste:
  circle w0: c-2.525,1.95 r0.175
  circle w0: c-2.525,1.3 r0.175
  circle w0: c-2.525,0.65 r0.175
  circle w0: c-2.525,0 r0.175
  circle w0: c-2.525,-0.65 r0.175
  circle w0: c-2.525,-1.3 r0.175
  circle w0: c-2.525,-1.95 r0.175
  circle w0: c-1.95,-2.525 r0.175
  circle w0: c-1.3,-2.525 r0.175
  circle w0: c-0.65,-2.525 r0.175
  circle w0: c0,-2.525 r0.175
  circle w0: c0.65,-2.525 r0.175
  circle w0: c1.3,-2.525 r0.175
  circle w0: c1.95,-2.525 r0.175
  circle w0: c2.525,-1.95 r0.175
  circle w0: c2.525,-1.3 r0.175
  circle w0: c2.525,-0.65 r0.175
  circle w0: c2.525,0 r0.175
  circle w0: c2.525,0.65 r0.175
  circle w0: c2.525,1.3 r0.175
  circle w0: c2.525,1.95 r0.175
  circle w0: c1.95,2.525 r0.175
  circle w0: c1.3,2.525 r0.175
  circle w0: c0.65,2.525 r0.175
  circle w0: c0,2.525 r0.175
  circle w0: c-0.65,2.525 r0.175
  circle w0: c-1.3,2.525 r0.175
  circle w0: c-1.95,2.525 r0.175
  rectangle: -3.1,1.775 -2.525,2.125
  rectangle: -1.675,-1.675 1.675,1.675
  rectangle: -3.1,1.125 -2.525,1.475
  rectangle: -3.1,0.475 -2.525,0.825
  rectangle: -3.1,-0.175 -2.525,0.175
  rectangle: -3.1,-0.825 -2.525,-0.475
  rectangle: -3.1,-1.475 -2.525,-1.125
  rectangle: -3.1,-2.125 -2.525,-1.775
  region: -1.775,-3.1 -1.775,-2.525 -2.125,-2.525 -2.125,-3.1
  region: -1.125,-3.1 -1.125,-2.525 -1.475,-2.525 -1.475,-3.1
  region: -0.475,-3.1 -0.475,-2.525 -0.825,-2.525 -0.825,-3.1
  region: 0.175,-3.1 0.175,-2.525 -0.175,-2.525 -0.175,-3.1
  region: 0.825,-3.1 0.825,-2.525 0.475,-2.525 0.475,-3.1
  region: 1.475,-3.1 1.475,-2.525 1.125,-2.525 1.125,-3.1
  region: 2.125,-3.1 2.125,-2.525 1.775,-2.525 1.775,-3.1
  region: 3.1,-1.775 2.525,-1.775 2.525,-2.125 3.1,-2.125
  region: 3.1,-1.125 2.525,-1.125 2.525,-1.475 3.1,-1.475
  region: 3.1,-0.475 2.525,-0.475 2.525,-0.825 3.1,-0.825
  region: 3.1,0.175 2.525,0.175 2.525,-0.175 3.1,-0.175
  region: 3.1,0.825 2.525,0.825 2.525,0.475 3.1,0.475
  region: 3.1,1.475 2.525,1.475 2.525,1.125 3.1,1.125
  region: 3.1,2.125 2.525,2.125 2.525,1.775 3.1,1.775
  region: 1.775,3.1 1.775,2.525 2.125,2.525 2.125,3.1
  region: 1.125,3.1 1.125,2.525 1.475,2.525 1.475,3.1
  region: 0.475,3.1 0.475,2.525 0.825,2.525 0.825,3.1
  region: -0.175,3.1 -0.175,2.525 0.175,2.525 0.175,3.1
  region: -0.825,3.1 -0.825,2.525 -0.475,2.525 -0.475,3.1
  region: -1.475,3.1 -1.475,2.525 -1.125,2.525 -1.125,3.1
  region: -2.125,3.1 -2.125,2.525 -1.775,2.525 -1.775,3.1
Top Solder:
  circle w0: c-2.525,1.95 r0.225
  circle w0: c-2.525,1.3 r0.225
  circle w0: c-2.525,0.65 r0.225
  circle w0: c-2.525,0 r0.225
  circle w0: c-2.525,-0.65 r0.225
  circle w0: c-2.525,-1.3 r0.225
  circle w0: c-2.525,-1.95 r0.225
  circle w0: c-1.95,-2.525 r0.225
  circle w0: c-1.3,-2.525 r0.225
  circle w0: c-0.65,-2.525 r0.225
  circle w0: c0,-2.525 r0.225
  circle w0: c0.65,-2.525 r0.225
  circle w0: c1.3,-2.525 r0.225
  circle w0: c1.95,-2.525 r0.225
  circle w0: c2.525,-1.95 r0.225
  circle w0: c2.525,-1.3 r0.225
  circle w0: c2.525,-0.65 r0.225
  circle w0: c2.525,0 r0.225
  circle w0: c2.525,0.65 r0.225
  circle w0: c2.525,1.3 r0.225
  circle w0: c2.525,1.95 r0.225
  circle w0: c1.95,2.525 r0.225
  circle w0: c1.3,2.525 r0.225
  circle w0: c0.65,2.525 r0.225
  circle w0: c0,2.525 r0.225
  circle w0: c-0.65,2.525 r0.225
  circle w0: c-1.3,2.525 r0.225
  circle w0: c-1.95,2.525 r0.225
  rectangle: -3.175,1.725 -2.5,2.175
  rectangle: -1.85,-1.85 1.825,1.85
  rectangle: -3.175,1.075 -2.5,1.525
  rectangle: -3.175,0.425 -2.5,0.875
  rectangle: -3.175,-0.225 -2.5,0.225
  rectangle: -3.175,-0.875 -2.5,-0.425
  rectangle: -3.175,-1.525 -2.5,-1.075
  rectangle: -3.175,-2.175 -2.5,-1.725
  region: -1.725,-3.175 -1.725,-2.5 -2.175,-2.5 -2.175,-3.175
  region: -1.075,-3.175 -1.075,-2.5 -1.525,-2.5 -1.525,-3.175
  region: -0.425,-3.175 -0.425,-2.5 -0.875,-2.5 -0.875,-3.175
  region: 0.225,-3.175 0.225,-2.5 -0.225,-2.5 -0.225,-3.175
  region: 0.875,-3.175 0.875,-2.5 0.425,-2.5 0.425,-3.175
  region: 1.525,-3.175 1.525,-2.5 1.075,-2.5 1.075,-3.175
  region: 2.175,-3.175 2.175,-2.5 1.725,-2.5 1.725,-3.175
  region: 3.175,-1.725 2.5,-1.725 2.5,-2.175 3.175,-2.175
  region: 3.175,-1.075 2.5,-1.075 2.5,-1.525 3.175,-1.525
  region: 3.175,-0.425 2.5,-0.425 2.5,-0.875 3.175,-0.875
  region: 3.175,0.225 2.5,0.225 2.5,-0.225 3.175,-0.225
  region: 3.175,0.875 2.5,0.875 2.5,0.425 3.175,0.425
  region: 3.175,1.525 2.5,1.525 2.5,1.075 3.175,1.075
  region: 3.175,2.175 2.5,2.175 2.5,1.725 3.175,1.725
  region: 1.725,3.175 1.725,2.5 2.175,2.5 2.175,3.175
  region: 1.075,3.175 1.075,2.5 1.525,2.5 1.525,3.175
  region: 0.425,3.175 0.425,2.5 0.875,2.5 0.875,3.175
  region: -0.225,3.175 -0.225,2.5 0.225,2.5 0.225,3.175
  region: -0.875,3.175 -0.875,2.5 -0.425,2.5 -0.425,3.175
  region: -1.525,3.175 -1.525,2.5 -1.075,2.5 -1.075,3.175
  region: -2.175,3.175 -2.175,2.5 -1.725,2.5 -1.725,3.175
Mechanical 16:
  rectangle: -2.875,0.975 -0.975,2.875
  lines w0.203: -2.9,-2.9 2.9,-2.9 2.9,2.9 -2.9,2.9 -2.9,-2.9

## HVQFN32 [mm]
pads (33):
  rect 0.5x0.3 smd: 1(-2.3,1.75) 2(-2.3,1.25) 3(-2.3,0.75) 4(-2.3,0.25) 5(-2.3,-0.25) 6(-2.3,-0.75) 7(-2.3,-1.25) 8(-2.3,-1.75) 17(2.3,-1.75) 18(2.3,-1.25) 19(2.3,-0.75) 20(2.3,-0.25) 21(2.3,0.25) 22(2.3,0.75) 23(2.3,1.25) 24(2.3,1.75)
  rect 0.3x0.5 smd: 9(-1.75,-2.3) 10(-1.25,-2.3) 11(-0.75,-2.3) 12(-0.25,-2.3) 13(0.25,-2.3) 14(0.75,-2.3) 15(1.25,-2.3) 16(1.75,-2.3) 25(1.75,2.3) 26(1.25,2.3) 27(0.75,2.3) 28(0.25,2.3) 29(-0.25,2.3) 30(-0.75,2.3) 31(-1.25,2.3) 32(-1.75,2.3)
  rect 3.7x3.7 smd: TH(0,0)
Top Solder:
  rectangle: -2.575,1.575 -2.025,1.925
  rectangle: -2.575,1.075 -2.025,1.425
  rectangle: -2.575,0.575 -2.025,0.925
  rectangle: -2.575,0.075 -2.025,0.425
  rectangle: -2.575,-0.425 -2.025,-0.075
  rectangle: -2.575,-0.925 -2.025,-0.575
  rectangle: -2.575,-1.425 -2.025,-1.075
  rectangle: -2.575,-1.925 -2.025,-1.575
  region: -1.575,-2.575 -1.575,-2.025 -1.925,-2.025 -1.925,-2.575
  region: -1.075,-2.575 -1.075,-2.025 -1.425,-2.025 -1.425,-2.575
  region: -0.575,-2.575 -0.575,-2.025 -0.925,-2.025 -0.925,-2.575
  region: -0.075,-2.575 -0.075,-2.025 -0.425,-2.025 -0.425,-2.575
  region: 0.425,-2.575 0.425,-2.025 0.075,-2.025 0.075,-2.575
  region: 0.925,-2.575 0.925,-2.025 0.575,-2.025 0.575,-2.575
  region: 1.425,-2.575 1.425,-2.025 1.075,-2.025 1.075,-2.575
  region: 1.925,-2.575 1.925,-2.025 1.575,-2.025 1.575,-2.575
  region: 2.575,-1.575 2.025,-1.575 2.025,-1.925 2.575,-1.925
  region: 2.575,-1.075 2.025,-1.075 2.025,-1.425 2.575,-1.425
  region: 2.575,-0.575 2.025,-0.575 2.025,-0.925 2.575,-0.925
  region: 2.575,-0.075 2.025,-0.075 2.025,-0.425 2.575,-0.425
  region: 2.575,0.425 2.025,0.425 2.025,0.075 2.575,0.075
  region: 2.575,0.925 2.025,0.925 2.025,0.575 2.575,0.575
  region: 2.575,1.425 2.025,1.425 2.025,1.075 2.575,1.075
  region: 2.575,1.925 2.025,1.925 2.025,1.575 2.575,1.575
  region: 1.575,2.575 1.575,2.025 1.925,2.025 1.925,2.575
  region: 1.075,2.575 1.075,2.025 1.425,2.025 1.425,2.575
  region: 0.575,2.575 0.575,2.025 0.925,2.025 0.925,2.575
  region: 0.075,2.575 0.075,2.025 0.425,2.025 0.425,2.575
  region: -0.425,2.575 -0.425,2.025 -0.075,2.025 -0.075,2.575
  region: -0.925,2.575 -0.925,2.025 -0.575,2.025 -0.575,2.575
  region: -1.425,2.575 -1.425,2.025 -1.075,2.025 -1.075,2.575
  region: -1.925,2.575 -1.925,2.025 -1.575,2.025 -1.575,2.575
  rectangle: -1.875,-1.875 1.875,1.875
Mechanical 16:
  region: -2.2,1.625 -2.2,1.875 -2.55,1.875 -2.55,1.625
  region: -2.2,1.125 -2.2,1.375 -2.55,1.375 -2.55,1.125
  region: -2.2,0.625 -2.2,0.875 -2.55,0.875 -2.55,0.625
  region: -2.2,0.125 -2.2,0.375 -2.55,0.375 -2.55,0.125
  region: -2.2,-0.375 -2.2,-0.125 -2.55,-0.125 -2.55,-0.375
  region: -2.2,-0.875 -2.2,-0.625 -2.55,-0.625 -2.55,-0.875
  region: -2.2,-1.375 -2.2,-1.125 -2.55,-1.125 -2.55,-1.375
  region: -2.2,-1.875 -2.2,-1.625 -2.55,-1.625 -2.55,-1.875
  region: -1.625,-2.2 -1.875,-2.2 -1.875,-2.55 -1.625,-2.55
  region: -1.125,-2.2 -1.375,-2.2 -1.375,-2.55 -1.125,-2.55
  region: -0.625,-2.2 -0.875,-2.2 -0.875,-2.55 -0.625,-2.55
  region: -0.125,-2.2 -0.375,-2.2 -0.375,-2.55 -0.125,-2.55
  region: 0.375,-2.2 0.125,-2.2 0.125,-2.55 0.375,-2.55
  region: 0.875,-2.2 0.625,-2.2 0.625,-2.55 0.875,-2.55
  region: 1.375,-2.2 1.125,-2.2 1.125,-2.55 1.375,-2.55
  region: 1.875,-2.2 1.625,-2.2 1.625,-2.55 1.875,-2.55
  region: 2.2,-1.625 2.2,-1.875 2.55,-1.875 2.55,-1.625
  region: 2.2,-1.125 2.2,-1.375 2.55,-1.375 2.55,-1.125
  region: 2.2,-0.625 2.2,-0.875 2.55,-0.875 2.55,-0.625
  region: 2.2,-0.125 2.2,-0.375 2.55,-0.375 2.55,-0.125
  region: 2.2,0.375 2.2,0.125 2.55,0.125 2.55,0.375
  region: 2.2,0.875 2.2,0.625 2.55,0.625 2.55,0.875
  region: 2.2,1.375 2.2,1.125 2.55,1.125 2.55,1.375
  region: 2.2,1.875 2.2,1.625 2.55,1.625 2.55,1.875
  rectangle: 1.625,2.2 1.875,2.55
  rectangle: 1.125,2.2 1.375,2.55
  rectangle: 0.625,2.2 0.875,2.55
  rectangle: 0.125,2.2 0.375,2.55
  rectangle: -0.375,2.2 -0.125,2.55
  rectangle: -0.875,2.2 -0.625,2.55
  rectangle: -1.375,2.2 -1.125,2.55
  rectangle: -1.875,2.2 -1.625,2.55
  rectangle: -2.5,0.5 -0.5,2.5
  lines w0.15: -2.2,-1.8 ccw(c-2.2,-1.75) -2.2,-1.7 ; -2.2,-1.3 ccw(c-2.2,-1.25) -2.2,-1.2 ; -2.2,-0.8 ccw(c-2.2,-0.75) -2.2,-0.7 ; -2.2,-0.3 ccw(c-2.2,-0.25) -2.2,-0.2 ; -2.2,0.2 ccw(c-2.2,0.25) -2.2,0.3 ; -2.2,0.7 ccw(c-2.2,0.75) -2.2,0.8 ; -2.2,1.2 ccw(c-2.2,1.25) -2.2,1.3 ; -2.2,1.7 ccw(c-2.2,1.75) -2.2,1.8 ; -1.8,-2.2 cw(c-1.75,-2.2) -1.7,-2.2 ; -1.8,2.2 ccw(c-1.75,2.2) -1.7,2.2 ; -1.3,-2.2 cw(c-1.25,-2.2) -1.2,-2.2 ; -1.3,2.2 ccw(c-1.25,2.2) -1.2,2.2 ; -0.8,-2.2 cw(c-0.75,-2.2) -0.7,-2.2 ; -0.8,2.2 ccw(c-0.75,2.2) -0.7,2.2 ; -0.3,-2.2 cw(c-0.25,-2.2) -0.2,-2.2 ; -0.3,2.2 ccw(c-0.25,2.2) -0.2,2.2 ; 0.2,-2.2 cw(c0.25,-2.2) 0.3,-2.2 ; 0.2,2.2 ccw(c0.25,2.2) 0.3,2.2 ; 0.7,-2.2 cw(c0.75,-2.2) 0.8,-2.2 ; 0.7,2.2 ccw(c0.75,2.2) 0.8,2.2 ; 1.2,-2.2 cw(c1.25,-2.2) 1.3,-2.2 ; 1.2,2.2 ccw(c1.25,2.2) 1.3,2.2 ; 1.7,-2.2 cw(c1.75,-2.2) 1.8,-2.2 ; 1.7,2.2 ccw(c1.75,2.2) 1.8,2.2 ; 2.2,-1.8 cw(c2.2,-1.75) 2.2,-1.7 ; 2.2,-1.3 cw(c2.2,-1.25) 2.2,-1.2 ; 2.2,-0.8 cw(c2.2,-0.75) 2.2,-0.7 ; 2.2,-0.3 cw(c2.2,-0.25) 2.2,-0.2 ; 2.2,0.2 cw(c2.2,0.25) 2.2,0.3 ; 2.2,0.7 cw(c2.2,0.75) 2.2,0.8 ; 2.2,1.2 cw(c2.2,1.25) 2.2,1.3 ; 2.2,1.7 cw(c2.2,1.75) 2.2,1.8
  lines w0.203: -2.5,-2.5 2.5,-2.5 2.5,2.5 -2.5,2.5 -2.5,-2.5

## HVQFN40 [mm]
pads (41):
  rect 0.5x0.3 smd: 1(-2.75,2.25) 2(-2.75,1.75) 3(-2.75,1.25) 4(-2.75,0.75) 5(-2.75,0.25) 6(-2.75,-0.25) 7(-2.75,-0.75) 8(-2.75,-1.25) 9(-2.75,-1.75) 10(-2.75,-2.25) 21(2.75,-2.25) 22(2.75,-1.75) 23(2.75,-1.25) 24(2.75,-0.75) 25(2.75,-0.25) 26(2.75,0.25) 27(2.75,0.75) 28(2.75,1.25) 29(2.75,1.75) 30(2.75,2.25)
  rect 0.3x0.5 smd: 11(-2.25,-2.75) 12(-1.75,-2.75) 13(-1.25,-2.75) 14(-0.75,-2.75) 15(-0.25,-2.75) 16(0.25,-2.75) 17(0.75,-2.75) 18(1.25,-2.75) 19(1.75,-2.75) 20(2.25,-2.75) 31(2.25,2.75) 32(1.75,2.75) 33(1.25,2.75) 34(0.75,2.75) 35(0.25,2.75) 36(-0.25,2.75) 37(-0.75,2.75) 38(-1.25,2.75) 39(-1.75,2.75) 40(-2.25,2.75)
  rect 4.1x4.1 smd: TH(0,0)
Top Paste:
  circle w0: c-2.65,2.25 r0.128
  circle w0: c-2.65,1.75 r0.128
  circle w0: c-2.65,1.25 r0.128
  circle w0: c-2.65,0.75 r0.128
  circle w0: c-2.65,0.25 r0.128
  circle w0: c-2.65,-0.25 r0.128
  circle w0: c-2.65,-0.75 r0.128
  circle w0: c-2.65,-1.25 r0.128
  circle w0: c-2.65,-1.75 r0.128
  circle w0: c-2.65,-2.25 r0.128
  circle w0: c-2.25,-2.65 r0.128
  circle w0: c-1.75,-2.65 r0.128
  circle w0: c-1.25,-2.65 r0.128
  circle w0: c-0.75,-2.65 r0.128
  circle w0: c-0.25,-2.65 r0.128
  circle w0: c0.25,-2.65 r0.128
  circle w0: c0.75,-2.65 r0.128
  circle w0: c1.25,-2.65 r0.128
  circle w0: c1.75,-2.65 r0.128
  circle w0: c2.25,-2.65 r0.128
  circle w0: c2.65,-2.25 r0.128
  circle w0: c2.65,-1.75 r0.128
  circle w0: c2.65,-1.25 r0.128
  circle w0: c2.65,-0.75 r0.128
  circle w0: c2.65,-0.25 r0.128
  circle w0: c2.65,0.25 r0.128
  circle w0: c2.65,0.75 r0.128
  circle w0: c2.65,1.25 r0.128
  circle w0: c2.65,1.75 r0.128
  circle w0: c2.65,2.25 r0.128
  circle w0: c2.25,2.65 r0.128
  circle w0: c1.75,2.65 r0.128
  circle w0: c1.25,2.65 r0.128
  circle w0: c0.75,2.65 r0.128
  circle w0: c0.25,2.65 r0.128
  circle w0: c-0.25,2.65 r0.128
  circle w0: c-0.75,2.65 r0.128
  circle w0: c-1.25,2.65 r0.128
  circle w0: c-1.75,2.65 r0.128
  circle w0: c-2.25,2.65 r0.128
  rectangle: -2.975,2.125 -2.65,2.375
  rectangle: -2.975,1.625 -2.65,1.875
  rectangle: -2.975,1.125 -2.65,1.375
  rectangle: -2.975,0.625 -2.65,0.875
  rectangle: -2.975,0.125 -2.65,0.375
  rectangle: -2.975,-0.375 -2.65,-0.125
  rectangle: -2.975,-0.875 -2.65,-0.625
  rectangle: -2.975,-1.375 -2.65,-1.125
  rectangle: -2.975,-1.875 -2.65,-1.625
  rectangle: -2.975,-2.375 -2.65,-2.125
  region: -2.125,-2.975 -2.125,-2.65 -2.375,-2.65 -2.375,-2.975
  region: -1.625,-2.975 -1.625,-2.65 -1.875,-2.65 -1.875,-2.975
  region: -1.125,-2.975 -1.125,-2.65 -1.375,-2.65 -1.375,-2.975
  region: -0.625,-2.975 -0.625,-2.65 -0.875,-2.65 -0.875,-2.975
  region: -0.125,-2.975 -0.125,-2.65 -0.375,-2.65 -0.375,-2.975
  region: 0.375,-2.975 0.375,-2.65 0.125,-2.65 0.125,-2.975
  region: 0.875,-2.975 0.875,-2.65 0.625,-2.65 0.625,-2.975
  region: 1.375,-2.975 1.375,-2.65 1.125,-2.65 1.125,-2.975
  region: 1.875,-2.975 1.875,-2.65 1.625,-2.65 1.625,-2.975
  region: 2.375,-2.975 2.375,-2.65 2.125,-2.65 2.125,-2.975
  region: 2.975,-2.125 2.65,-2.125 2.65,-2.375 2.975,-2.375
  region: 2.975,-1.625 2.65,-1.625 2.65,-1.875 2.975,-1.875
  region: 2.975,-1.125 2.65,-1.125 2.65,-1.375 2.975,-1.375
  region: 2.975,-0.625 2.65,-0.625 2.65,-0.875 2.975,-0.875
  region: 2.975,-0.125 2.65,-0.125 2.65,-0.375 2.975,-0.375
  region: 2.975,0.375 2.65,0.375 2.65,0.125 2.975,0.125
  region: 2.975,0.875 2.65,0.875 2.65,0.625 2.975,0.625
  region: 2.975,1.375 2.65,1.375 2.65,1.125 2.975,1.125
  region: 2.975,1.875 2.65,1.875 2.65,1.625 2.975,1.625
  region: 2.975,2.375 2.65,2.375 2.65,2.125 2.975,2.125
  region: 2.125,2.975 2.125,2.65 2.375,2.65 2.375,2.975
  region: 1.625,2.975 1.625,2.65 1.875,2.65 1.875,2.975
  region: 1.125,2.975 1.125,2.65 1.375,2.65 1.375,2.975
  region: 0.625,2.975 0.625,2.65 0.875,2.65 0.875,2.975
  region: 0.125,2.975 0.125,2.65 0.375,2.65 0.375,2.975
  region: -0.375,2.975 -0.375,2.65 -0.125,2.65 -0.125,2.975
  region: -0.875,2.975 -0.875,2.65 -0.625,2.65 -0.625,2.975
  region: -1.375,2.975 -1.375,2.65 -1.125,2.65 -1.125,2.975
  region: -1.875,2.975 -1.875,2.65 -1.625,2.65 -1.625,2.975
  region: -2.375,2.975 -2.375,2.65 -2.125,2.65 -2.125,2.975
Top Solder:
  circle w0: c-2.65,2.25 r0.175
  circle w0: c-2.65,1.75 r0.175
  circle w0: c-2.65,1.25 r0.175
  circle w0: c-2.65,0.75 r0.175
  circle w0: c-2.65,0.25 r0.175
  circle w0: c-2.65,-0.25 r0.175
  circle w0: c-2.65,-0.75 r0.175
  circle w0: c-2.65,-1.25 r0.175
  circle w0: c-2.65,-1.75 r0.175
  circle w0: c-2.65,-2.25 r0.175
  circle w0: c-2.25,-2.65 r0.175
  circle w0: c-1.75,-2.65 r0.175
  circle w0: c-1.25,-2.65 r0.175
  circle w0: c-0.75,-2.65 r0.175
  circle w0: c-0.25,-2.65 r0.175
  circle w0: c0.25,-2.65 r0.175
  circle w0: c0.75,-2.65 r0.175
  circle w0: c1.25,-2.65 r0.175
  circle w0: c1.75,-2.65 r0.175
  circle w0: c2.25,-2.65 r0.175
  circle w0: c2.65,-2.25 r0.175
  circle w0: c2.65,-1.75 r0.175
  circle w0: c2.65,-1.25 r0.175
  circle w0: c2.65,-0.75 r0.175
  circle w0: c2.65,-0.25 r0.175
  circle w0: c2.65,0.25 r0.175
  circle w0: c2.65,0.75 r0.175
  circle w0: c2.65,1.25 r0.175
  circle w0: c2.65,1.75 r0.175
  circle w0: c2.65,2.25 r0.175
  circle w0: c2.25,2.65 r0.175
  circle w0: c1.75,2.65 r0.175
  circle w0: c1.25,2.65 r0.175
  circle w0: c0.75,2.65 r0.175
  circle w0: c0.25,2.65 r0.175
  circle w0: c-0.25,2.65 r0.175
  circle w0: c-0.75,2.65 r0.175
  circle w0: c-1.25,2.65 r0.175
  circle w0: c-1.75,2.65 r0.175
  circle w0: c-2.25,2.65 r0.175
  rectangle: -3.025,2.075 -2.65,2.425
  rectangle: -3.025,1.575 -2.65,1.925
  rectangle: -3.025,1.075 -2.65,1.425
  rectangle: -3.025,0.575 -2.65,0.925
  rectangle: -3.025,0.075 -2.65,0.425
  rectangle: -3.025,-0.425 -2.65,-0.075
  rectangle: -3.025,-0.925 -2.65,-0.575
  rectangle: -3.025,-1.425 -2.65,-1.075
  rectangle: -3.025,-1.925 -2.65,-1.575
  rectangle: -3.025,-2.425 -2.65,-2.075
  region: -2.075,-3.025 -2.075,-2.65 -2.425,-2.65 -2.425,-3.025
  region: -1.575,-3.025 -1.575,-2.65 -1.925,-2.65 -1.925,-3.025
  region: -1.075,-3.025 -1.075,-2.65 -1.425,-2.65 -1.425,-3.025
  region: -0.575,-3.025 -0.575,-2.65 -0.925,-2.65 -0.925,-3.025
  region: -0.075,-3.025 -0.075,-2.65 -0.425,-2.65 -0.425,-3.025
  region: 0.425,-3.025 0.425,-2.65 0.075,-2.65 0.075,-3.025
  region: 0.925,-3.025 0.925,-2.65 0.575,-2.65 0.575,-3.025
  region: 1.425,-3.025 1.425,-2.65 1.075,-2.65 1.075,-3.025
  region: 1.925,-3.025 1.925,-2.65 1.575,-2.65 1.575,-3.025
  region: 2.425,-3.025 2.425,-2.65 2.075,-2.65 2.075,-3.025
  region: 3.025,-2.075 2.65,-2.075 2.65,-2.425 3.025,-2.425
  region: 3.025,-1.575 2.65,-1.575 2.65,-1.925 3.025,-1.925
  region: 3.025,-1.075 2.65,-1.075 2.65,-1.425 3.025,-1.425
  region: 3.025,-0.575 2.65,-0.575 2.65,-0.925 3.025,-0.925
  region: 3.025,-0.075 2.65,-0.075 2.65,-0.425 3.025,-0.425
  region: 3.025,0.425 2.65,0.425 2.65,0.075 3.025,0.075
  region: 3.025,0.925 2.65,0.925 2.65,0.575 3.025,0.575
  region: 3.025,1.425 2.65,1.425 2.65,1.075 3.025,1.075
  region: 3.025,1.925 2.65,1.925 2.65,1.575 3.025,1.575
  region: 3.025,2.425 2.65,2.425 2.65,2.075 3.025,2.075
  region: 2.075,3.025 2.075,2.65 2.425,2.65 2.425,3.025
  region: 1.575,3.025 1.575,2.65 1.925,2.65 1.925,3.025
  region: 1.075,3.025 1.075,2.65 1.425,2.65 1.425,3.025
  region: 0.575,3.025 0.575,2.65 0.925,2.65 0.925,3.025
  region: 0.075,3.025 0.075,2.65 0.425,2.65 0.425,3.025
  region: -0.425,3.025 -0.425,2.65 -0.075,2.65 -0.075,3.025
  region: -0.925,3.025 -0.925,2.65 -0.575,2.65 -0.575,3.025
  region: -1.425,3.025 -1.425,2.65 -1.075,2.65 -1.075,3.025
  region: -1.925,3.025 -1.925,2.65 -1.575,2.65 -1.575,3.025
  region: -2.425,3.025 -2.425,2.65 -2.075,2.65 -2.075,3.025
Mechanical 16:
  drawing of 219 lines, arcs and shapes, not listed

## I2C [mm]
Top Overlay:
  rectangle: 0.464,0.489 0.806,1.645
  rectangle: 0.794,0.959 1.359,1.168
  rectangle: 0.794,1.391 1.492,1.645
  rectangle: 0.794,0.489 1.492,0.737
  rectangle: 3.943,0.959 4.642,1.181
  rectangle: 3.95,1.403 4.623,1.657
  rectangle: 3.975,0.489 4.648,0.737
  rectangle: 2.261,0.489 3.213,0.743
  rectangle: 3.054,0.705 3.423,1.632
  rectangle: 2.038,0.718 2.407,1.632
  lines w0.051: 0.21,1.848 0.019,1.848 ; 0.222,5.042 0.222,5.594 cw(c0.451,5.594) 0.444,5.823 ; 0.438,5.823 5.01,5.823 ; 1.708,5.201 2.267,5.201 cw(c2.248,5.049) 2.261,4.896 ; 1.714,5.201 ccw(c1.715,5.079) 1.594,5.061 1.403,5.061 1.403,5.112 cw(c1.692,5.103) 1.676,5.391 2.286,5.391 cw(c2.251,5.041) 2.292,4.692 1.67,4.693 ccw(c1.686,4.615) 1.607,4.617 1.607,4.515 2.597,4.515 2.597,4.324 1.403,4.324 1.403,4.705 cw(c1.578,4.722) 1.555,4.896 2.305,4.896 ; 2.839,2.127 2.839,4.731 cw(c3.144,4.731) 3.144,5.036 ; 2.838,2.165 ccw(c3.143,2.165) 3.143,1.861 5.131,1.861 ; 3.029,2.165 3.029,4.718 ; 3.029,2.178 ccw(c3.169,2.178) 3.162,2.038 ; 3.029,4.712 cw(c3.168,4.705) 3.169,4.845 5.099,4.845 ; 3.137,5.036 5.125,5.036 cw(c5.125,4.731) 5.43,4.731 ; 3.156,2.038 5.086,2.038 ccw(c5.087,2.178) 5.226,2.172 ; 3.664,2.464 3.664,2.47 ; 3.664,4.439 3.664,4.432 ; 3.804,4.566 4.375,4.566 ; 3.81,4.566 ccw(c3.809,4.42) 3.664,4.432 ; 3.823,2.305 4.331,2.305 ; 3.829,2.305 cw(c3.826,2.467) 3.664,2.47 ; 3.867,2.705 ccw(c4.076,2.705) 4.286,2.705 4.286,3.131 5.429,3.131 5.429,2.165 cw(c5.124,2.165) 5.124,1.861 ; 3.867,2.712 3.867,4.21 ; 3.867,4.204 cw(c4.035,4.194) 4.032,4.362 ; 4.02,4.363 4.134,4.363 cw(c4.131,4.195) 4.299,4.204 ; 4.299,4.21 4.299,3.689 5.429,3.689 5.429,4.737 ; 4.324,2.305 ccw(c4.327,2.467) 4.489,2.47 ; 4.356,4.566 cw(c4.343,4.42) 4.489,4.42 ; 4.49,2.464 4.49,2.927 5.226,2.927 5.226,2.165 ; 4.49,4.439 4.49,3.893 5.226,3.893 ; 4.997,5.823 cw(c4.998,5.594) 5.226,5.601 ; 5.004,0.235 ccw(c4.997,0.464) 5.226,0.464 5.226,1.873 ; 5.01,0.235 0.451,0.235 cw(c0.451,0.464) 0.223,0.457 0.222,1.848 1.2,1.848 1.2,5.036 0.019,5.036 ; 5.093,4.845 cw(c5.086,4.705) 5.226,4.705 5.226,3.893 ; 5.137,0.032 ccw(c5.137,0.324) 5.429,0.324 5.429,2.134 ; 5.144,0.032 0.311,0.032 cw(c0.311,0.324) 0.019,0.324 0.019,1.848 ; 5.226,5.017 5.226,5.601 ; 5.226,5.607 5.226,5.601 ; 5.429,4.75 5.429,5.734 ccw(c5.137,5.734) 5.137,6.026 0.311,6.026 ccw(c0.311,5.734) 0.019,5.734 0.019,5.036 ; 0.019,1.848 0.019,5.036 ; 3.664,2.47 3.664,4.432 ; 5.226,3.893 5.226,3.893 ; 0.222,2.051 0.984,2.051 0.984,4.832 0.222,4.832 0.222,2.051
  lines w0.152: 1.346,0.673 ccw(c1.346,0.848) 1.346,1.022 ; 1.346,1.105 ccw(c1.346,1.28) 1.346,1.454 ; 1.486,0.552 ccw(c1.486,0.838) 1.486,1.124 ; 1.486,1.01 ccw(c1.486,1.295) 1.486,1.581 ; 3.956,1.022 cw(c3.956,1.308) 3.956,1.594 ; 4.083,1.118 cw(c4.083,1.292) 4.083,1.467 ; 4.502,0.673 ccw(c4.502,0.848) 4.502,1.022 ; 4.629,0.546 ccw(c4.629,0.832) 4.629,1.118
  lines w0.203: 1.422,1.067 ccw(c1.407,1.292) 1.422,1.518 ; 1.441,0.61 ccw(c1.426,0.835) 1.441,1.06 ; 2.14,0.737 ccw(c2.267,0.719) 2.273,0.591 ; 2.305,0.857 ccw(c2.521,0.857) 2.527,0.641 ; 2.934,0.641 ccw(c2.94,0.857) 3.156,0.857 ; 3.175,0.591 ccw(c3.193,0.718) 3.321,0.724 ; 3.715,0.857 ccw(c3.982,0.857) 3.988,0.591 ; 3.88,0.857 ccw(c4.096,0.857) 4.102,0.641 ; 4.02,1.086 cw(c4.036,1.311) 4.02,1.537 ; 4.496,1.505 cw(c4.502,1.289) 4.718,1.289 ; 4.566,0.603 ccw(c4.55,0.829) 4.566,1.054 ; 4.61,1.556 cw(c4.616,1.289) 4.883,1.289